# Altium footprint library SparkFun-DigitalIC.PCBLIB: 112 footprints (part 1 of 7)
Each footprint in its own frame and in the unit in brackets; x right, y up, seen from the top. Pads: shape width x height; smd on the part's side, far side on the other; paste and mask are expansions set on the pad; w line width, h text height; cw(c..) or ccw(c..) is an arc to the next point about the centre after c.
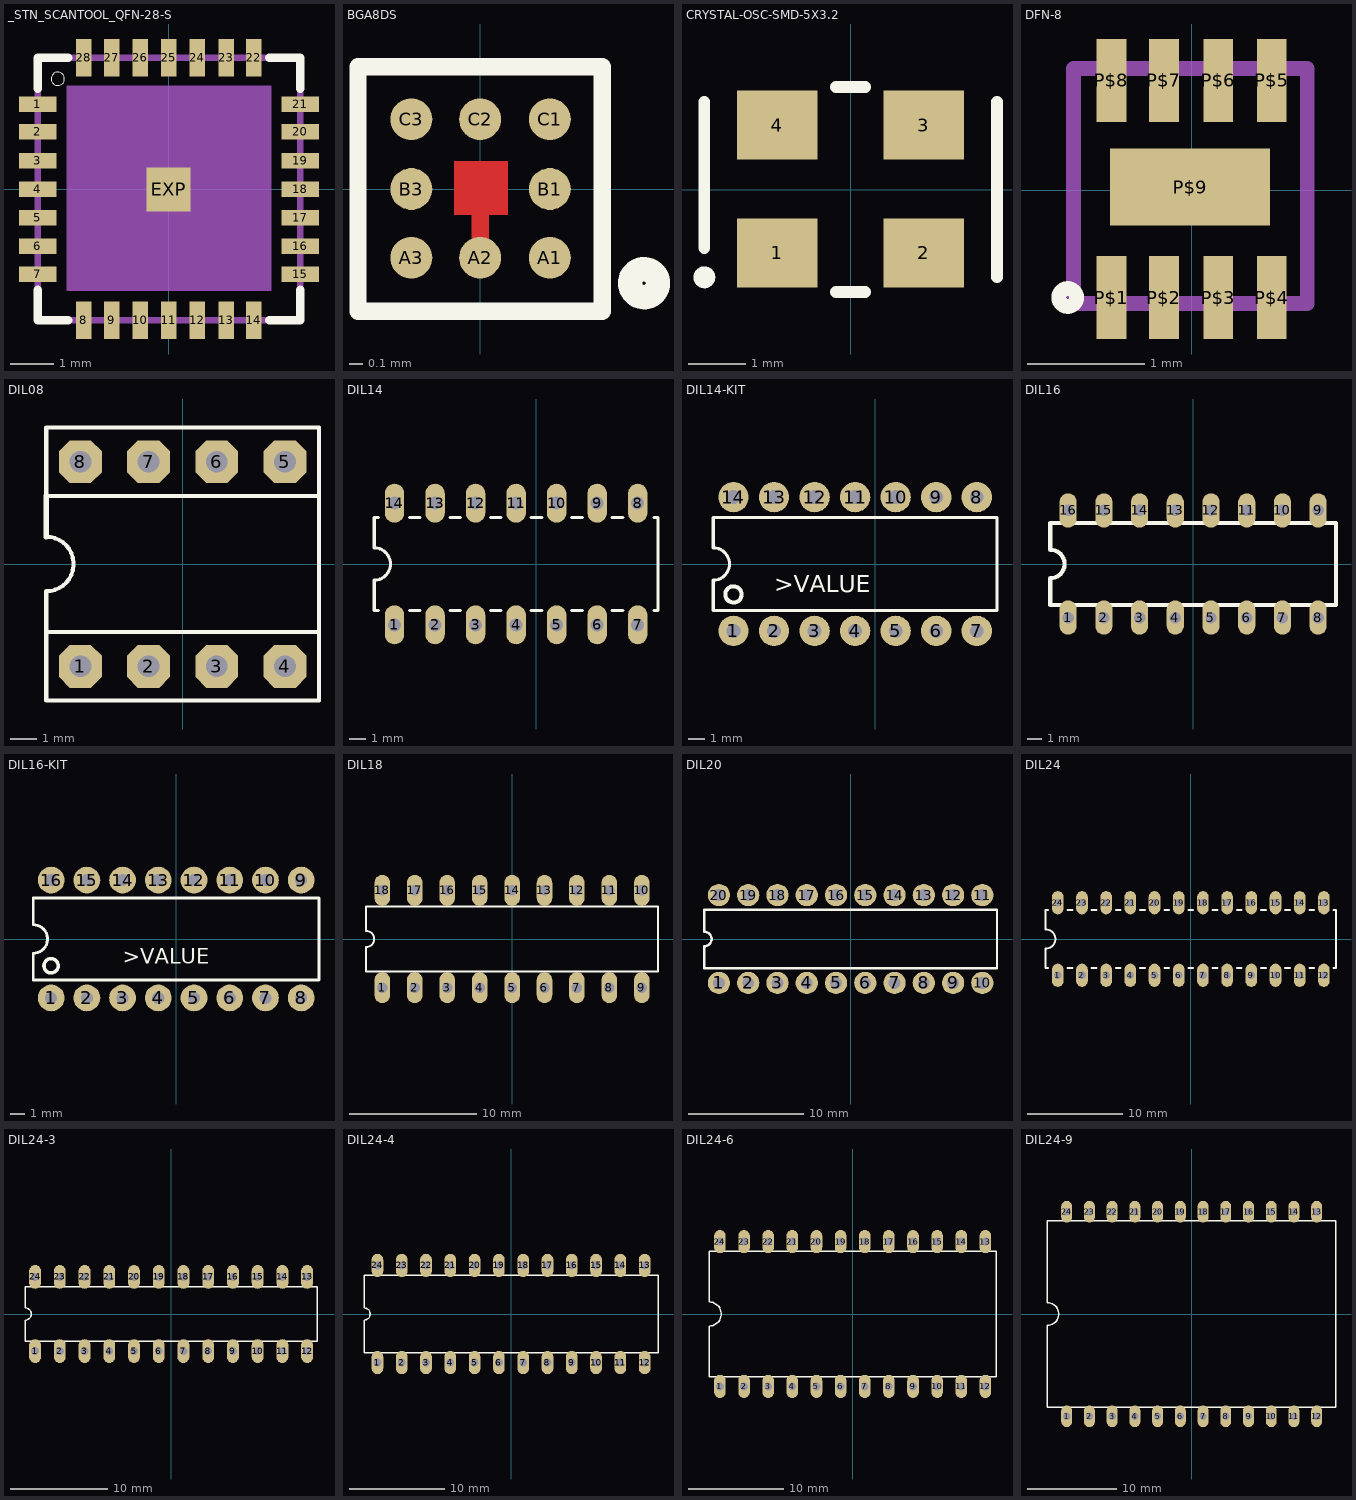
[diagram p0: the footprints below, top view; thin cyan lines are the x and y axes]

## _STN_SCANTOOL_QFN-28-S [mil]
pads (29):
  rect 34x14 smd: 1(-118.11,77) 2(-118.11,52) 3(-118.11,26) 4(-118.11,0) 5(-118.11,-25.59) 6(-118.11,-51.18) 7(-118.11,-76.77) 15(119,-76.77) 16(119,-51.18) 17(119,-25.59) 18(119,0) 19(119,26) 20(119,52) 21(119,77)
  rect 14x34 smd: 8(-76.77,-118.11) 9(-51.18,-118.11) 10(-25.59,-118.11) 11(0,-118.11) 12(26,-118.11) 13(52,-118.11) 14(77,-118.11) 22(77,119) 23(52,119) 24(26,119) 25(0,119) 26(-25.59,119) 27(-51.18,119) 28(-76.77,119)
  rrect5% 40x40 smd: EXP(0,0)
Top Overlay:
  circle w0: c-100,100 r6
  lines w8: -118.11,-90.55 -118.11,-118.11 -90.55,-118.11 ; -118.11,91 -118.11,119 -90.55,119 ; 91,-118.11 119,-118.11 119,-90.55 ; 91,119 119,119 119,91
Top Paste:
  rectangle: -19.72,-19.72 20,20
Mechanical 2:
  text ">NAME" at -115,145 h42.5
Mechanical 4:
  text ">VALUE" at -120,-195 h42.5
Mechanical 16:
  lines w6: -118.11,-118.11 119,-118.11 119,119 -118.11,119 -118.11,-118.11
Mechanical 27:
  rectangle: -92.13,-91.73 93,94

## BGA8DS [mil]
pads (8):
  rrect100% 12x12 smd: A1(20,-19.7) A2(0,-19.7) A3(-19.7,-19.7) B1(20,0) B3(-19.7,0) C1(20,20) C2(0,20) C3(-19.7,20)
Top Layer:
  rectangle: -7.5,-7.5 8,8
  lines w5: 0,-19.7 0,0
Top Overlay:
  circle w7: c47,-27 r4
  lines w5: -35,-35 35,-35 35,35 -35,35 -35,-35
Mechanical 2:
  text ">NAME" at -60,-75 h37.2
Mechanical 4:
  text ">VALUE" at -60,50 h37.2

## CRYSTAL-OSC-SMD-5X3.2 [mil]
pads (4):
  rect 55x47 smd: 1(-50,-43.31) 2(50,-43.31) 3(50,44) 4(-50,44)
Top Overlay:
  circle w5: c-100,-60 r2
  circle w5: c-100,-60 r5
  lines w8: -100,-40 -100,60 ; -10,-70 10,-70 ; -10,70 10,70 ; 100,-60 100,60
Mechanical 2:
  text ">NAME" at -100,75 h24.8
Mechanical 4:
  text ">VALUE" at -100,-100 h24.8

## DFN-8 [mil]
pads (9):
  rect 10x28 smd: P$1(-27.08,-36.22) P$2(-9.36,-36.22) P$3(9,-36.22) P$4(27,-36.22) P$5(27,37) P$6(9,37) P$7(-9.36,37) P$8(-27.08,37)
  rect 54x26 smd: P$9(-0.5,1)
Top Overlay:
  circle w5: c-41.84,-36.22 r3
  circle w5: c-41.84,-36.22 r3
Mechanical 2:
  text ">NAME" at -32,60 h24.8
  text ">NAME" at -32,60 h24.8
Mechanical 4:
  text ">VALUE" at -42,-75 h24.8
  text ">VALUE" at -42,-75 h24.8
Mechanical 16:
  lines w5: -39.87,-38.19 39,-38.19 39,41 -39.87,41 -39.87,-38.19

## DIL08 [mil]
pads (8):
  oct 63x63 hole 32: 1(-150,-150) 2(-50,-150) 3(50,-150) 4(150,-150) 5(150,150) 6(50,150) 7(-50,150) 8(-150,150)
Top Overlay:
  lines w6: -200,40 cw(c-200,0) -200,-40 -200,-100 ; -200,-100 -200,-200 200,-200 200,-100 ; -200,-100 200,-100 ; 200,-100 200,100 ; 200,100 200,200 -200,200 -200,100 200,100
  lines w8: -200,40 -200,100
Mechanical 2:
  text ">NAME" at -225,-150 h77.5
Mechanical 4:
  text ">VALUE" at -125,-25 h77.5

## DIL14 [mil]
pads (14):
  oval 48x96 hole 32: 1(-350,-150) 2(-250,-150) 3(-150,-150) 4(-50,-150) 5(50,-150) 6(150,-150) 7(250,-150) 8(250,150) 9(150,150) 10(50,150) 11(-50,150) 12(-150,150) 13(-250,150) 14(-350,150)
Top Overlay:
  lines w8: -390,-115 -400,-115 -400,-40 ccw(c-400,0) -400,40 -400,115 -390,115 ; -313,-115 -287,-115 ; -313,115 -287,115 ; -213,-115 -187,-115 ; -213,115 -187,115 ; -113,-115 -87,-115 ; -113,115 -87,115 ; -13,-115 13,-115 ; -13,115 13,115 ; 87,-115 113,-115 ; 87,115 113,115 ; 187,-115 213,-115 ; 187,115 213,115 ; 290,-115 300,-115 300,115 290,115
Mechanical 2:
  text ">NAME" at -250,25 h77.5
Mechanical 4:
  text ">VALUE" at -250,-70 h77.5

## DIL14-KIT [mil]
pads (14):
  round 75 hole 34: 1(-350,-165) 2(-250,-165) 3(-150,-165) 4(-50,-165) 5(50,-165) 6(150,-165) 7(250,-165) 8(250,165) 9(150,165) 10(50,165) 11(-50,165) 12(-150,165) 13(-250,165) 14(-350,165)
Top Overlay:
  circle w10: c-350,-75 r20
  lines w8: -400,-115 -400,-40 ccw(c-400,0) -400,40 -400,115 300,115 300,-115 -400,-115
  text ">VALUE" at -250,-70 h42.5
Top Solder:
  circle w0: c-350,165 r17
  circle w0: c-250,165 r17
  circle w0: c-150,165 r17
  circle w0: c-50,165 r17
  circle w0: c50,165 r17
  circle w0: c150,165 r17
  circle w0: c250,165 r17
  circle w0: c-250,-165 r17
  circle w0: c-150,-165 r17
  circle w0: c-50,-165 r17
  circle w0: c50,-165 r17
  circle w0: c150,-165 r17
  circle w0: c250,-165 r17
  circle w0: c-350,-165 r17
Bottom Solder:
  circle w0: c-350,165 r42
  circle w0: c-250,165 r42
  circle w0: c-150,165 r42
  circle w0: c-50,165 r42
  circle w0: c50,165 r42
  circle w0: c150,165 r42
  circle w0: c250,165 r42
  circle w0: c150,-165 r42
  circle w0: c250,-165 r42
  circle w0: c50,-165 r42
  circle w0: c-50,-165 r42
  circle w0: c-150,-165 r42
  circle w0: c-250,-165 r42
  circle w0: c-350,-165 r42
Mechanical 2:
  text ">NAME" at -250,25 h42.5
Mechanical 4:
  text ">VALUE" at -250,-70 h42.5

## DIL16 [mil]
pads (16):
  oval 48x96 hole 32: 1(-350,-150) 2(-250,-150) 3(-150,-150) 4(-50,-150) 5(50,-150) 6(150,-150) 7(250,-150) 8(350,-150) 9(350,150) 10(250,150) 11(150,150) 12(50,150) 13(-50,150) 14(-150,150) 15(-250,150) 16(-350,150)
Top Overlay:
  lines w12: -400,-115 400,-115 400,115 -400,115 -400,40 cw(c-400,0) -400,-40 -400,-115
Mechanical 2:
  text ">NAME" at -415,-115 h77.5
Mechanical 4:
  text ">VALUE" at -295,-25 h77.5

## DIL16-KIT [mil]
pads (16):
  round 75 hole 34: 1(-350,-165) 2(-250,-165) 3(-150,-165) 4(-50,-165) 5(50,-165) 6(150,-165) 7(250,-165) 8(350,-165) 9(350,165) 10(250,165) 11(150,165) 12(50,165) 13(-50,165) 14(-150,165) 15(-250,165) 16(-350,165)
Top Overlay:
  circle w10: c-350,-75 r20
  lines w8: -400,-115 -400,-40 ccw(c-400,0) -400,40 -400,115 400,115 400,-115 -400,-115
  text ">VALUE" at -150,-70 h42.5
Top Solder:
  circle w0: c-150,165 r17
  circle w0: c-50,165 r17
  circle w0: c50,165 r17
  circle w0: c150,165 r17
  circle w0: c250,165 r17
  circle w0: c350,165 r17
  circle w0: c350,-165 r17
  circle w0: c-250,-165 r17
  circle w0: c-150,-165 r17
  circle w0: c-50,-165 r17
  circle w0: c50,-165 r17
  circle w0: c150,-165 r17
  circle w0: c250,-165 r17
  circle w0: c-350,-165 r17
  circle w0: c-150,165 r17
  circle w0: c-150,165 r17
  circle w0: c-250,165 r17
  circle w0: c-350,165 r17
Bottom Solder:
  circle w0: c-150,165 r42
  circle w0: c-50,165 r42
  circle w0: c50,165 r42
  circle w0: c150,165 r42
  circle w0: c250,165 r42
  circle w0: c350,165 r42
  circle w0: c350,-165 r42
  circle w0: c150,-165 r42
  circle w0: c250,-165 r42
  circle w0: c50,-165 r42
  circle w0: c-50,-165 r42
  circle w0: c-150,-165 r42
  circle w0: c-250,-165 r42
  circle w0: c-350,-165 r42
  circle w0: c-250,165 r42
  circle w0: c-350,165 r42
Mechanical 2:
  text ">NAME" at -150,25 h42.5
Mechanical 4:
  text ">VALUE" at -150,-70 h42.5

## DIL18 [mil]
pads (18):
  oval 48x96 hole 32: 1(-400,-150) 2(-300,-150) 3(-200,-150) 4(-100,-150) 5(0,-150) 6(100,-150) 7(200,-150) 8(300,-150) 9(400,-150) 10(400,150) 11(300,150) 12(200,150) 13(100,150) 14(0,150) 15(-100,150) 16(-200,150) 17(-300,150) 18(-400,150)
Top Overlay:
  lines w6: -450,-100 -450,-25 ccw(c-450,0) -450,25 -450,100 450,100 450,-100 -450,-100
Mechanical 2:
  text ">NAME" at -467,-100 h108.5
Mechanical 4:
  text ">VALUE" at -400,-35 h108.5

## DIL20 [mil]
pads (20):
  round 76 hole 40: 1(-450,-150) 2(-350,-150) 3(-250,-150) 4(-150,-150) 5(-50,-150) 6(50,-150) 7(150,-150) 8(250,-150) 9(350,-150) 10(450,-150) 11(450,150) 12(350,150) 13(250,150) 14(150,150) 15(50,150) 16(-50,150) 17(-150,150) 18(-250,150) 19(-350,150) 20(-450,150)
Top Overlay:
  lines w8: -500,-100 -500,-25 ccw(c-500,0) -500,25 -500,100 500,100 500,-100 -500,-100
Mech66:
  text ">NAME" at -400,-75 h77.5
Mech68:
  text ">VALUE" at -400,25 h77.5

## DIL24 [mil]
pads (24):
  oval 48x96 hole 32: 1(-550,-150) 2(-450,-150) 3(-350,-150) 4(-250,-150) 5(-150,-150) 6(-50,-150) 7(50,-150) 8(150,-150) 9(250,-150) 10(350,-150) 11(450,-150) 12(550,-150) 13(550,150) 14(450,150) 15(350,150) 16(250,150) 17(150,150) 18(50,150) 19(-50,150) 20(-150,150) 21(-250,150) 22(-350,150) 23(-450,150) 24(-550,150)
Top Overlay:
  lines w8: -590,-120 -600,-120 -600,-40 ccw(c-600,0) -600,40 -600,120 -590,120 ; -510,-120 -490,-120 ; -510,120 -490,120 ; -410,-120 -390,-120 ; -410,120 -390,120 ; -310,-120 -290,-120 ; -310,120 -290,120 ; -210,-120 -190,-120 ; -210,120 -190,120 ; -110,-120 -90,-120 ; -110,120 -90,120 ; -10,-120 10,-120 ; -10,120 10,120 ; 90,-120 110,-120 ; 90,120 110,120 ; 190,-120 210,-120 ; 190,120 210,120 ; 300,-120 290,-120 310,-120 ; 300,120 290,120 310,120 ; 390,-120 410,-120 ; 390,120 410,120 ; 490,-120 510,-120 ; 490,120 510,120 ; 590,-120 600,-120 600,120 590,120
Mechanical 2:
  text ">NAME" at -610,-120 h77.5
Mechanical 4:
  text ">VALUE" at -525,-25 h77.5

## DIL24-3 [mil]
pads (24):
  oval 48x96 hole 32: 1(-550,-150) 2(-450,-150) 3(-350,-150) 4(-250,-150) 5(-150,-150) 6(-50,-150) 7(50,-150) 8(150,-150) 9(250,-150) 10(350,-150) 11(450,-150) 12(550,-150) 13(550,150) 14(450,150) 15(350,150) 16(250,150) 17(150,150) 18(50,150) 19(-50,150) 20(-150,150) 21(-250,150) 22(-350,150) 23(-450,150) 24(-550,150)
Top Overlay:
  lines w6: -590,-110 -590,-25 ccw(c-590,0) -590,25 -590,110 590,110 590,-110 -590,-110
Mechanical 2:
  text ">NAME" at -602,-105 h108.5
Mechanical 4:
  text ">VALUE" at -530,-35 h108.5

## DIL24-4 [mil]
pads (24):
  oval 48x96 hole 32: 1(-550,-200) 2(-450,-200) 3(-350,-200) 4(-250,-200) 5(-150,-200) 6(-50,-200) 7(50,-200) 8(150,-200) 9(250,-200) 10(350,-200) 11(450,-200) 12(550,-200) 13(550,200) 14(450,200) 15(350,200) 16(250,200) 17(150,200) 18(50,200) 19(-50,200) 20(-150,200) 21(-250,200) 22(-350,200) 23(-450,200) 24(-550,200)
Top Overlay:
  lines w6: -605,-160 -605,-25 ccw(c-605,0) -605,25 -605,160 605,160 605,-160 -605,-160
Mechanical 2:
  text ">NAME" at -616,-150 h108.5
Mechanical 4:
  text ">VALUE" at -500,-33 h108.5

## DIL24-6 [mil]
pads (24):
  oval 48x96 hole 32: 1(-550,-300) 2(-450,-300) 3(-350,-300) 4(-250,-300) 5(-150,-300) 6(-50,-300) 7(50,-300) 8(150,-300) 9(250,-300) 10(350,-300) 11(450,-300) 12(550,-300) 13(550,300) 14(450,300) 15(350,300) 16(250,300) 17(150,300) 18(50,300) 19(-50,300) 20(-150,300) 21(-250,300) 22(-350,300) 23(-450,300) 24(-550,300)
Top Overlay:
  lines w6: -595,-260 -595,-50 ccw(c-595,0) -595,50 -595,260 595,260 595,-260 -595,-260
Mechanical 2:
  text ">NAME" at -615,-250 h108.5
Mechanical 4:
  text ">VALUE" at -475,-35 h108.5

## DIL24-9 [mil]
pads (24):
  oval 48x96 hole 32: 1(-550,-450) 2(-450,-450) 3(-350,-450) 4(-250,-450) 5(-150,-450) 6(-50,-450) 7(50,-450) 8(150,-450) 9(250,-450) 10(350,-450) 11(450,-450) 12(550,-450) 13(550,450) 14(450,450) 15(350,450) 16(250,450) 17(150,450) 18(50,450) 19(-50,450) 20(-150,450) 21(-250,450) 22(-350,450) 23(-450,450) 24(-550,450)
Top Overlay:
  lines w6: -635,-410 -635,-50 ccw(c-635,0) -635,50 -635,410 635,410 635,-410 -635,-410
Mechanical 2:
  text ">NAME" at -650,-390 h108.5
Mechanical 4:
  text ">VALUE" at -450,-25 h108.5